# Altium footprint library Conectors.PcbLib: 38 footprints (part 1 of 3)
Each footprint in its own frame and in the unit in brackets; x right, y up, seen from the top. Pads: shape width x height; smd on the part's side, far side on the other; paste and mask are expansions set on the pad; w line width, h text height; cw(c..) or ccw(c..) is an arc to the next point about the centre after c.
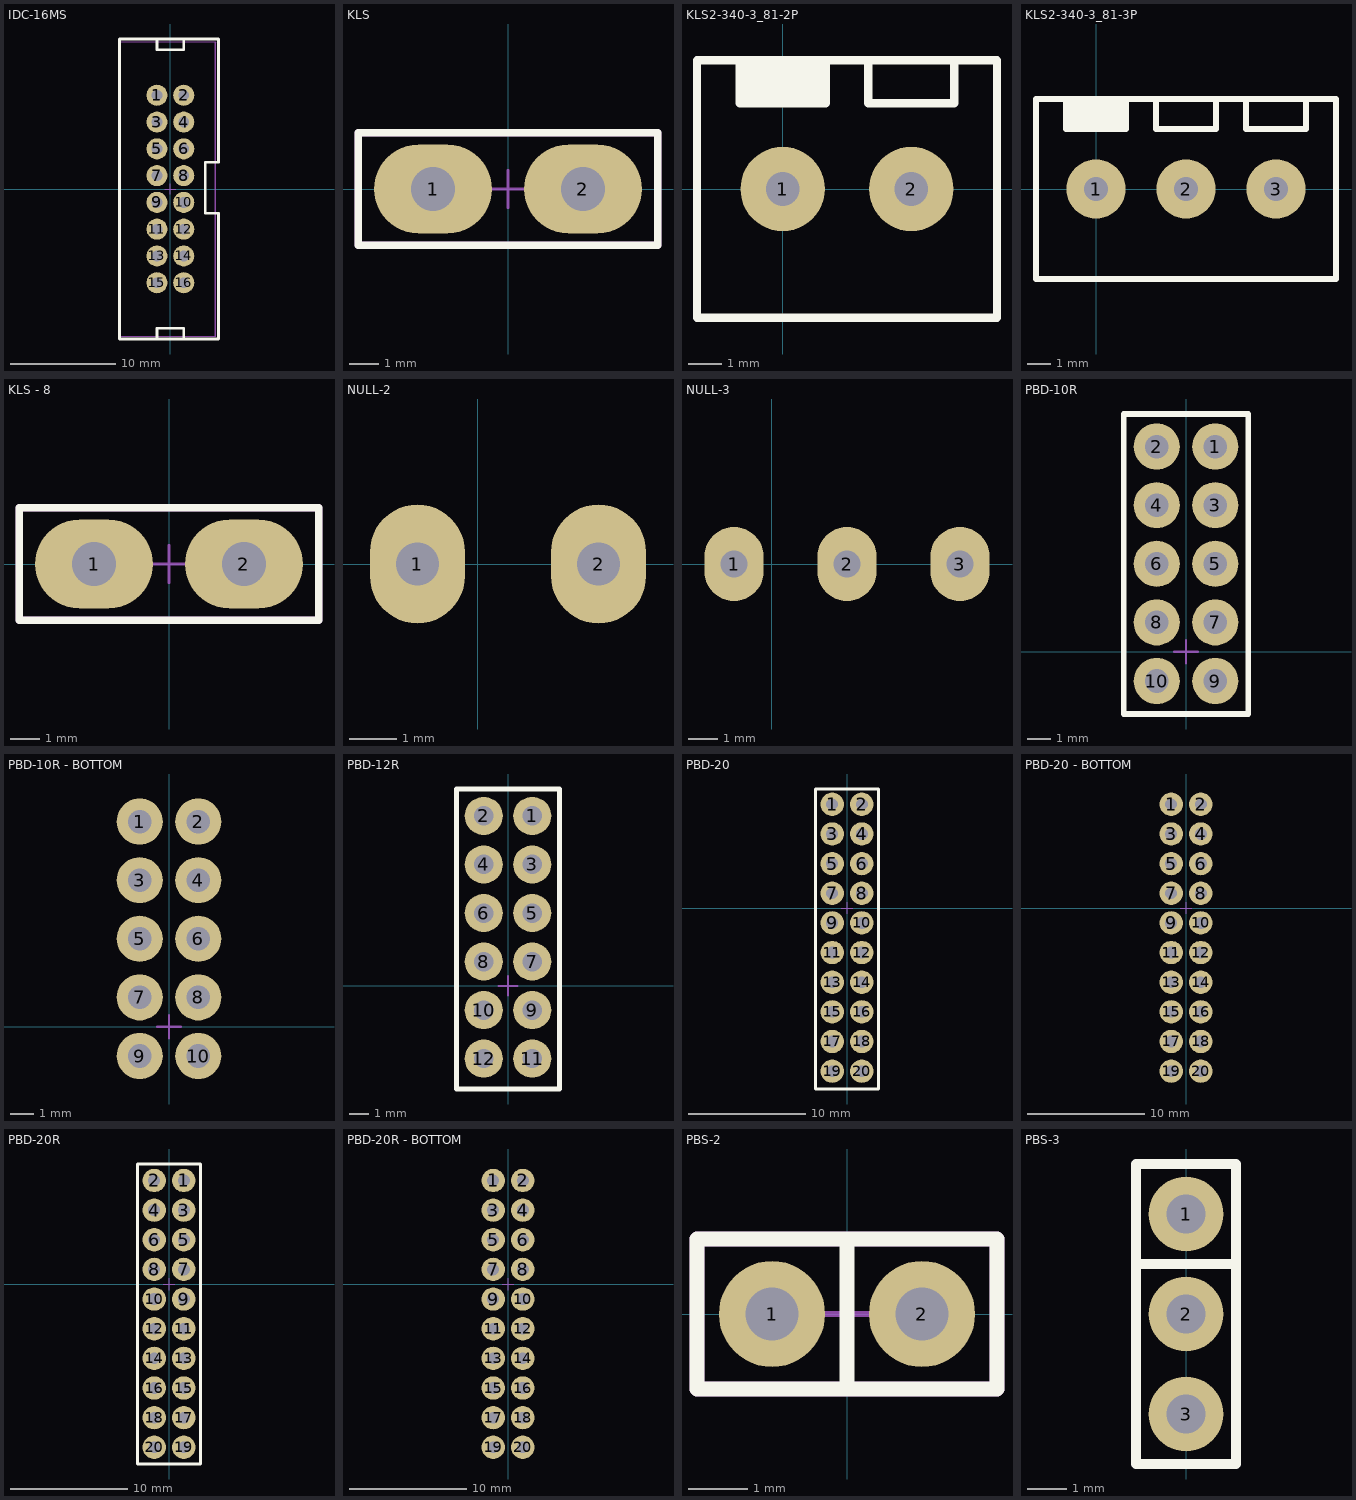
[diagram p0: the footprints below, top view; thin cyan lines are the x and y axes]

## IDC-16MS [mm]
pads (16):
  round 2 hole 1.02: 1(-1.27,8.89) 2(1.27,8.89) 3(-1.27,6.35) 4(1.27,6.35) 5(-1.27,3.81) 6(1.27,3.81) 7(-1.27,1.27) 8(1.27,1.27) 9(-1.27,-1.27) 10(1.27,-1.27) 11(-1.27,-3.81) 12(1.27,-3.81) 13(-1.27,-6.35) 14(1.27,-6.35) 15(-1.27,-8.89) 16(1.27,-8.89)
Top Overlay:
  lines w0.254: -1.27,-14.172 -1.27,-13.716 -1.27,-13.208 1.27,-13.208 1.27,-14.172 ; -1.27,14.224 -1.27,13.208 1.27,13.208 1.27,14.224 ; -4.826,-14.224 -4.826,14.224 4.572,14.224 4.572,2.54 3.302,2.54 3.302,-2.286 4.572,-2.286 4.572,-14.224 -4.826,-14.224
Top Assy:
  lines w0.1: -4.826,-13.97 4.236,-13.97 4.236,13.97 -4.826,13.97 -4.826,-13.97
Border:
  lines w0.1: -0.508,0 0.508,0 ; 0,-0.508 0,0.508 ; -4.826,-13.97 -4.826,13.97 4.236,13.97 4.318,13.888 4.318,-13.97 -4.826,-13.97
3D body "Connector-IDC-16M.STEP": height 9.3, standoff -3.1, extent -4.7,-14 4.4,14

## KLS [mm]
pads (2):
  oval 4x3 hole 1.5: 1(-2.54,0) 2(2.54,0)
Top Overlay:
  lines w0.254: -5.08,-1.905 -5.08,1.905 5.08,1.905 5.08,-1.905 -5.08,-1.905
Top Assy:
  lines w0.254: -5.08,-1.905 5.08,-1.905 5.08,1.905 -5.08,1.905 -5.08,-1.905
Border:
  lines w0.1: -0.635,0 0.635,0 ; 0,-0.635 0,0.635 ; -5.08,-1.905 5.08,-1.905 5.08,1.905 -5.08,1.905 -5.08,-1.905
3D body "Connector-KLS.stp": height 10.3, standoff -3.72, extent -3.962,-0.394 3.962,0.394

## KLS2-340-3_81-2P [mm]
pads (2):
  round 2.5 hole 1: 1(0,0) 2(3.81,0)
Top Overlay:
  region: -1.27,3.81 -1.27,2.54 1.27,2.54 1.27,3.81
  lines w0.25: -1.27,3.81 -1.27,2.54 1.27,2.54 1.27,3.81 ; 2.54,3.81 2.54,2.54 5.08,2.54 5.08,3.81 ; -2.54,-3.81 6.35,-3.81 6.35,3.81 -2.54,3.81 -2.54,-3.81
3D body "Connector-KLS2-340-3_81-2P.step": height 8.4, standoff -3.27, extent -2.405,-3.5 6.215,3.5
3D body: height 0.25, standoff 0, extent 0,11.43 0,11.43

## KLS2-340-3_81-3P [mm]
pads (3):
  round 2.5 hole 1: 1(0,0) 2(3.81,0) 3(7.62,0)
Top Overlay:
  region: -1.27,3.81 -1.27,2.54 1.27,2.54 1.27,3.81
  lines w0.25: -1.27,3.81 -1.27,2.54 1.27,2.54 1.27,3.81 ; 2.54,3.81 2.54,2.54 5.08,2.54 5.08,3.81 ; 6.35,3.81 6.35,2.54 8.89,2.54 8.89,3.81 ; -2.54,-3.81 10.16,-3.81 10.16,3.81 -2.54,3.81 -2.54,-3.81
3D body "Connector-KLS2-340-3_81-3P.step": height 8.4, standoff -3.27, extent -2.54,-3.5 9.89,3.5
3D body: height 0.25, standoff 0, extent 0,11.43 0,11.43

## KLS - 8 [mm]
pads (2):
  oval 4x3 hole 1.5: 1(-2.54,0) 2(2.54,0)
Top Overlay:
  lines w0.254: -5.08,-1.905 -5.08,1.905 5.08,1.905 5.08,-1.905 -5.08,-1.905
Top Assy:
  lines w0.254: -5.08,-1.905 5.08,-1.905 5.08,1.905 -5.08,1.905 -5.08,-1.905
Border:
  lines w0.1: -0.635,0 0.635,0 ; 0,-0.635 0,0.635 ; -5.08,-1.905 5.08,-1.905 5.08,1.905 -5.08,1.905 -5.08,-1.905
3D body "KLS-L8.stp": height 9.17, standoff -3.62, extent -3.9,-0.3 12.363,0.449

## NULL-2 [mm]
pads (2):
  oval 2x2.5 hole 0.9: 1(-1.27,0) 2(2.54,0)

## NULL-3 [mm]
pads (3):
  oval 2x2.5 hole 0.9: 1(-1.27,0) 2(2.54,0) 3(6.35,0)

## PBD-10R [mm]
pads (10):
  round 2 hole 1.02: 1(1.27,8.89) 2(-1.27,8.89) 3(1.27,6.35) 4(-1.27,6.35) 5(1.27,3.81) 6(-1.27,3.81) 7(1.27,1.27) 8(-1.27,1.27) 9(1.27,-1.27) 10(-1.27,-1.27)
Top Overlay:
  lines w0.25: -2.7,-2.7 2.385,-2.7 ; -2.7,-2.7 -2.7,-1.43 -2.7,10.3 -2.365,10.3 2.7,10.3 2.7,-1.43 2.7,-2.7 2.385,-2.7 ; -2.7,-2.7 2.385,-2.7
Border:
  lines w0.1: -0.508,0 0.508,0 ; 0,-0.508 0,0.508
3D body "DS1024-2x5RF1.stp": height 5, standoff -3.5, extent -1.47,-2.69 11.43,10.31

## PBD-10R - BOTTOM [mm]
pads (10):
  round 2 hole 1.02: 1(-1.27,8.89) 2(1.27,8.89) 3(-1.27,6.35) 4(1.27,6.35) 5(-1.27,3.81) 6(1.27,3.81) 7(-1.27,1.27) 8(1.27,1.27) 9(-1.27,-1.27) 10(1.27,-1.27)
Bottom Overlay:
  lines w0.25: -2.7,-2.7 2.385,-2.7 ; -2.7,-2.7 2.385,-2.7 ; -2.7,-2.7 -2.7,-1.43 -2.7,10.3 -2.365,10.3 2.7,10.3 2.7,-1.43 2.7,-2.7 2.385,-2.7
Border:
  lines w0.1: -0.508,0 0.508,0 ; 0,-0.508 0,0.508
3D body "DS1024-2x5RF1.stp": height 1.9, standoff -6.6, extent -1.55,-2.7 11.35,10.3
3D body: height 0.25, standoff 0, extent 3.302,8.382 3.302,8.382
3D body: height 0.25, standoff 0, extent -4.826,7.874 -4.826,7.874

## PBD-12R [mm]
pads (12):
  round 2 hole 1.02: 1(1.27,8.89) 2(-1.27,8.89) 3(1.27,6.35) 4(-1.27,6.35) 5(1.27,3.81) 6(-1.27,3.81) 7(1.27,1.27) 8(-1.27,1.27) 9(1.27,-1.27) 10(-1.27,-1.27)
  round 2 hole 1: 11(1.27,-3.81) 12(-1.27,-3.81)
Top Overlay:
  lines w0.25: -2.7,-5.4 -2.7,-1.43 -2.7,10.3 -2.365,10.3 2.7,10.3 2.7,-1.43 2.7,-5.4 -2.7,-5.4
Border:
  lines w0.1: -0.508,0 0.508,0 ; 0,-0.508 0,0.508
3D body "DS1024-2x6RF1.stp": height 5, standoff -3.5, extent -1.5,-5.24 11.4,10.3
3D body: height 0.25, standoff 0, extent 3.302,8.382 3.302,8.382
3D body: height 0.25, standoff 0, extent -4.826,7.874 -4.826,7.874

## PBD-20 [mm]
pads (20):
  round 2 hole 1.02: 1(-1.27,8.89) 2(1.27,8.89) 3(-1.27,6.35) 4(1.27,6.35) 5(-1.27,3.81) 6(1.27,3.81) 7(-1.27,1.27) 8(1.27,1.27) 9(-1.27,-1.27) 10(1.27,-1.27)
  round 2 hole 1: 11(-1.27,-3.81) 12(1.27,-3.81) 13(-1.27,-6.35) 14(1.27,-6.35) 15(-1.27,-8.89) 16(1.27,-8.89) 17(-1.27,-11.43) 18(1.27,-11.43) 19(-1.27,-13.97) 20(1.27,-13.97)
Top Overlay:
  lines w0.25: -2.7,-15.5 -2.7,-1.43 -2.7,10.2 -2.265,10.2 2.7,10.2 2.7,-1.43 2.7,-15.5 -2.7,-15.5
Border:
  lines w0.1: -0.508,0 0.508,0 ; 0,-0.508 0,0.508
3D body: height 0.25, standoff 0, extent -4.826,7.874 -4.826,7.874
3D body: height 0.25, standoff 0, extent 3.302,8.382 3.302,8.382
3D body "DS1021-2x10SF11.stp": height 8.6, standoff -3, extent -2.5,-15.3 2.5,10.1

## PBD-20 - BOTTOM [mm]
pads (20):
  round 2 hole 1.02: 1(-1.27,8.89) 2(1.27,8.89) 3(-1.27,6.35) 4(1.27,6.35) 5(-1.27,3.81) 6(1.27,3.81) 7(-1.27,1.27) 8(1.27,1.27) 9(-1.27,-1.27) 10(1.27,-1.27)
  round 2 hole 1: 11(-1.27,-3.81) 12(1.27,-3.81) 13(-1.27,-6.35) 14(1.27,-6.35) 15(-1.27,-8.89) 16(1.27,-8.89) 17(-1.27,-11.43) 18(1.27,-11.43) 19(-1.27,-13.97) 20(1.27,-13.97)
Bottom Overlay:
  lines w0.25: -2.7,-15.5 2.7,-15.5 2.7,-1.43 2.7,10.2 -2.265,10.2 -2.7,10.2 -2.7,-1.43 -2.7,-15.5
Border:
  lines w0.1: -0.508,0 0.508,0 ; 0,-0.508 0,0.508
3D body: height 0.25, standoff 0, extent -4.826,7.874 -4.826,7.874
3D body: height 0.25, standoff 0, extent 3.302,8.382 3.302,8.382
3D body "DS1021-2x10SF11.stp": height 1.4, standoff -10.2, extent -2.5,-15.24 2.5,10.16

## PBD-20R [mm]
pads (20):
  round 2 hole 1.02: 1(1.27,8.89) 2(-1.27,8.89) 3(1.27,6.35) 4(-1.27,6.35) 5(1.27,3.81) 6(-1.27,3.81) 7(1.27,1.27) 8(-1.27,1.27) 9(1.27,-1.27) 10(-1.27,-1.27)
  round 2 hole 1: 11(1.27,-3.81) 12(-1.27,-3.81) 13(1.27,-6.35) 14(-1.27,-6.35) 15(1.27,-8.89) 16(-1.27,-8.89) 17(1.27,-11.43) 18(-1.27,-11.43) 19(1.27,-13.97) 20(-1.27,-13.97)
Top Overlay:
  lines w0.25: -2.7,-15.4 -2.7,-1.43 -2.7,10.3 -2.365,10.3 2.7,10.3 2.7,-1.43 2.7,-15.4 -2.7,-15.4
Border:
  lines w0.1: -0.508,0 0.508,0 ; 0,-0.508 0,0.508
3D body "DS1024-2x10RF1.stp": height 5, standoff -3.5, extent -1.4,-15.4 11.5,10.3
3D body: height 0.25, standoff 0, extent 3.302,8.382 3.302,8.382
3D body: height 0.25, standoff 0, extent -4.826,7.874 -4.826,7.874

## PBD-20R - BOTTOM [mm]
pads (20):
  round 2 hole 1.02: 1(-1.27,8.89) 2(1.27,8.89) 3(-1.27,6.35) 4(1.27,6.35) 5(-1.27,3.81) 6(1.27,3.81) 7(-1.27,1.27) 8(1.27,1.27) 9(-1.27,-1.27) 10(1.27,-1.27)
  round 2 hole 1: 11(-1.27,-3.81) 12(1.27,-3.81) 13(-1.27,-6.35) 14(1.27,-6.35) 15(-1.27,-8.89) 16(1.27,-8.89) 17(-1.27,-11.43) 18(1.27,-11.43) 19(-1.27,-13.97) 20(1.27,-13.97)
Bottom Overlay:
  lines w0.25: -2.7,-15.4 -2.7,10.3 -2.365,10.3 2.7,10.3 2.7,-1.43 2.7,-2.7 2.7,-15.4 -2.7,-15.4
Border:
  lines w0.1: -0.508,0 0.508,0 ; 0,-0.508 0,0.508
3D body: height 0.25, standoff 0, extent -4.826,7.874 -4.826,7.874
3D body: height 0.25, standoff 0, extent 3.302,8.382 3.302,8.382
3D body "DS1024-2x10RF1.stp": height 1.9, standoff -6.6, extent -1.55,-15.4 11.35,10.3

## PBS-2 [mm]
pads (2):
  round 1.8 hole 0.9: 1(-1.27,0) 2(1.27,0)
Top Overlay:
  lines w0.254: 0,-1.27 0,1.27 ; -2.54,-1.27 2.54,-1.27 2.54,1.27 -2.54,1.27 -2.54,-1.27
Top Assy:
  lines w0.254: -2.54,-1.27 2.54,-1.27 2.54,1.27 -2.54,1.27 -2.54,-1.27
Border:
  lines w0.1: -0.635,0 0.635,0 ; 0,-0.635 0,0.635 ; -2.54,-1.27 2.54,-1.27 2.54,1.27 -2.54,1.27 -2.54,-1.27
3D body "Connector-PBS-02.step": height 8.5, standoff -3.1, extent -2.54,-1.27 2.54,1.27

## PBS-3 [mm]
pads (3):
  round 1.9 hole 1: 1(0,8.89) 2(0,6.35) 3(0,3.81)
Top Overlay:
  lines w0.25: -1.27,7.62 1.27,7.62 ; -1.27,2.54 1.27,2.54 1.27,10.16 -1.27,10.16 -1.27,2.54
3D body "Connector-PBS-03.STEP": height 8.4, standoff -3.2, extent -1.27,2.54 1.27,10.16